# Altium schematic symbol library X.SchLib: 61 symbols
Pins are listed as number, name and electrical type; pins without a type are passive.

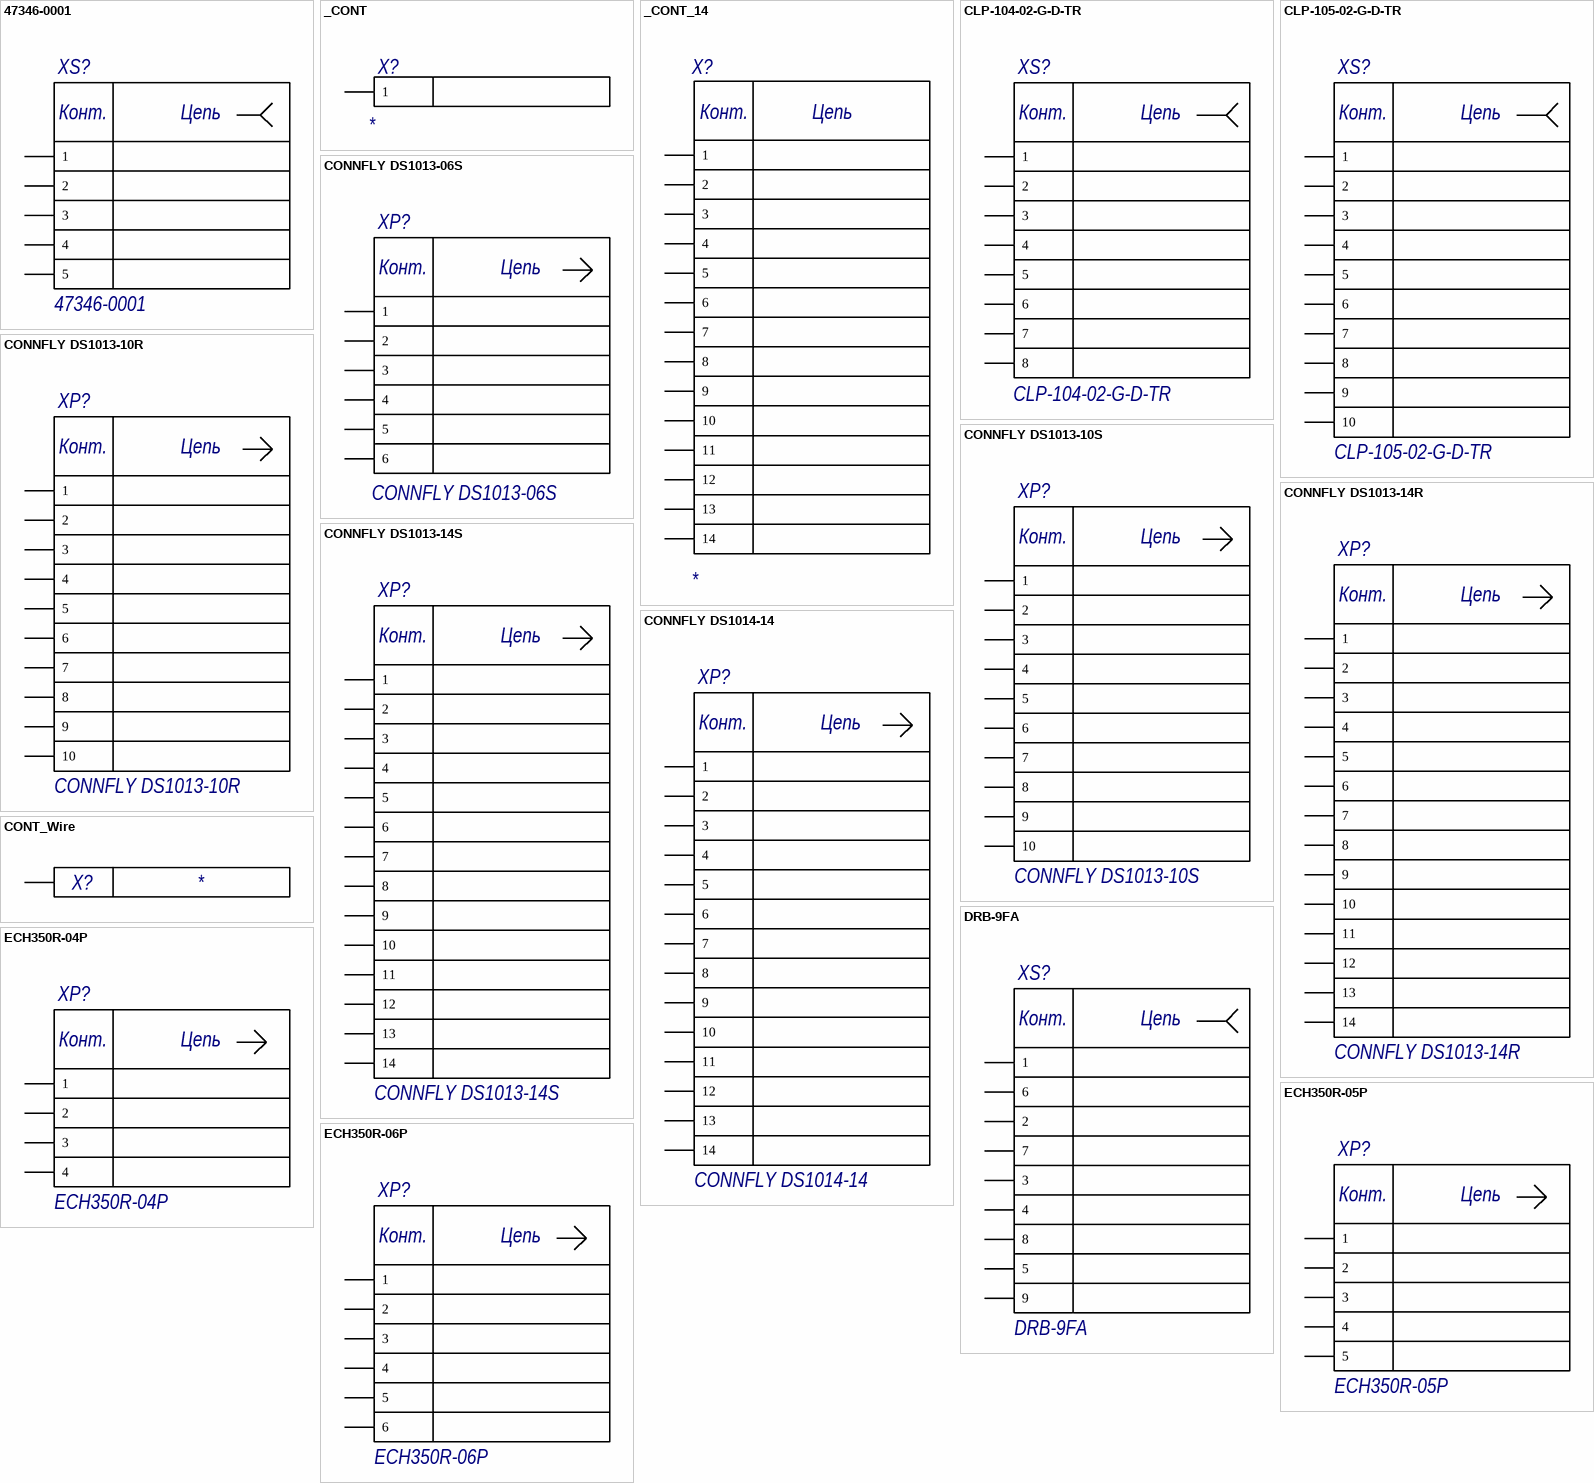
[diagram p0: symbols 47346-0001 to ECH350R-06P]

## 47346-0001
designator XS?, comment PartNumber: 47346-0001  (hidden comment: Розетка 47346-0001 фирма "Molex")
Разъем micro USB-B Molex; GOST: Розетка 47346-0001 фирма "Molex"
footprint 47346-0001 (47346-0001, Разъем micro USB-B (Molex ))
pins: 1, 2, 3, 4, 5
text: Конт.; Цепь

## _CONT
designator X?  (value not drawn)
CONT; GOST: *; PartNumber: *
pins: 1

## _CONT_14
designator X?  (value not drawn)
_CONT; GOST: *; PartNumber: *
pins: 1, 2, 3, 4, 5, 6, 7, 8, 9, 10, 11, 12, 13, 14
text: Конт.; Цепь

## CLP-104-02-G-D-TR
designator XS?, comment PartNumber: CLP-104-02-G-D-TR  (hidden comment: Розетка CLP-104-02-G-D-TR фирма "Samtec")
CONN RCPT 8POS 0.05 GOLD SMD; GOST: Розетка CLP-104-02-G-D-TR фирма "Samtec"
footprint CLP-104-02-G-D
pins: 1, 2, 3, 4, 5, 6, 7, 8
text: Конт.; Цепь

## CLP-105-02-G-D-TR
designator XS?, comment PartNumber: CLP-105-02-G-D-TR  (hidden comment: Розетка CLP-105-02-G-D-TR фирма "Samtec")
CONN RCPT 10POS 0.05 GOLD SMD; GOST: Розетка CLP-105-02-G-D-TR фирма "Samtec"
footprint CLP-105-02-G-D
pins: 1, 2, 3, 4, 5, 6, 7, 8, 9, 10
text: Конт.; Цепь

## CONNFLY DS1013-06S
designator XP?, comment PartNumber: CONNFLY DS1013-06S  (hidden comment: Вилка DS1013-06S фирма "Connfly")
Header CONNFLY DS1013-06S; GOST: Вилка DS1013-06S фирма "Connfly"
footprint CONNFLY DS1013-06S (Header CONNFLY DS1013-06 Pitch 2.54 (BH-06, IDC-06MS) Вилка на плату прямая 6 конт. шаг 2.54 мм)
pins: 1, 2, 3, 4, 5, 6
text: Конт.; Цепь

## CONNFLY DS1013-10R
designator XP?, comment PartNumber: CONNFLY DS1013-10R  (hidden comment: Вилка DS1013-10R фирма "Connfly")
Header CONNFLY DS1013-10R; GOST: Вилка DS1013-10R фирма "Connfly"
footprint CONNFLY DS1013-10R (Header CONNFLY DS1013-10R)
pins: 1, 2, 3, 4, 5, 6, 7, 8, 9, 10
text: Конт.; Цепь

## CONNFLY DS1013-10S
designator XP?, comment PartNumber: CONNFLY DS1013-10S  (hidden comment: Вилка DS1013-10S фирма "Connfly")
Header CONNFLY DS1013-10S; GOST: Вилка DS1013-10S фирма "Connfly"
footprint CONNFLY DS1013-10S (Header CONNFLY DS1013-10 Pitch 2.54 (BH-10))
pins: 1, 2, 3, 4, 5, 6, 7, 8, 9, 10
text: Конт.; Цепь

## CONNFLY DS1013-14R
designator XP?, comment PartNumber: CONNFLY DS1013-14R  (hidden comment: Вилка DS1013-14R фирма "Connfly")
Header CONNFLY DS1013-14R; GOST: Вилка DS1013-14R фирма "Connfly"
footprint CONNFLY DS1013-14R (Header CONNFLY DS1013-14R)
pins: 1, 2, 3, 4, 5, 6, 7, 8, 9, 10, 11, 12, 13, 14
text: Конт.; Цепь

## CONNFLY DS1013-14S
designator XP?, comment PartNumber: CONNFLY DS1013-14S  (hidden comment: Вилка DS1013-14S фирма "Connfly")
Header CONNFLY DS1013-14S; GOST: Вилка DS1013-14S фирма "Connfly"
footprint CONNFLY DS1013-14S (Header CONNFLY DS1013-14 Pitch 2.54 (BH-14))
pins: 1, 2, 3, 4, 5, 6, 7, 8, 9, 10, 11, 12, 13, 14
text: Конт.; Цепь

## CONNFLY DS1014-14
designator XP?, comment PartNumber: CONNFLY DS1014-14  (hidden comment: Вилка DS1014-14 фирма "Connfly")
Header 14pin, pitch 2mm; GOST: Вилка DS1014-14 фирма "Connfly"
footprint CONNFLY DS1014-14 (Header 14pin, pitch 2mm  (BH2-14), H=5.6mm)
pins: 1, 2, 3, 4, 5, 6, 7, 8, 9, 10, 11, 12, 13, 14
text: Конт.; Цепь

## CONT_Wire
designator X?  (value not drawn)
Value: *
footprint KP1_E2.0_D1.1 (1 pin: DP=2.0mm, DO=1.1mm)
footprint KP1_E2.5_D1.3 (1 pin: DP=2.5mm, DO=1.3mm)
footprint KP1_PLAN_X1.6Y3.0 (1 plan pin: XY=1.6*3.0mm)
footprint KP1_E1.0_D0.6 (1 pin: DP=1.0mm, DO=0.6mm)
footprint KP1_PLAN_X1.5Y5.0 (1 plan pin: XY=1.5*5.0mm)
footprint KP1_PLAN_X1.0Y3.0 (1 plan pin: XY=1*3mm)
footprint KP1_E3.0_D1.6 (1 pin: DP=3mm, DO=1.6mm Отверстие после металлизации 1.5мм)
footprint KP1_E3.0_D1.8 (1 pin: DP=3mm, DO=1.8mm Отверстие после металлизации 1.6мм)
footprint KP1_E3.2_D2.2 (1 pin: DP=3.2mm, DO=2.2mm Отверстие после металлизации 2мм)
footprint KP1_PLAN_X1.5Y4.0 (1 plan pin: XY=1.5*4.0mm)
footprint KP1_PLAN_X1.0Y1.0 (1 plan pin: XY=1*1mm)
footprint KP1_PLAN_X1.0Y2.0 (1 plan pin: XY=1*2mm)
footprint KP1_PLAN_X3.0Y5.0 (1 plan pin: XY=3.0*5.0mm)
pins: 1

## DRB-9FA
designator XS?, comment PartNumber: DRB-9FA  (hidden comment: Розетка DRB-9FA фирма "Ningbo connfly electronic")
CONN D-SUB RCPT 9POS R/A SOLDER; GOST: Розетка DRB-9FA фирма "Ningbo connfly electronic"
footprint DRB-9FA (D-SUB Right angle (7.2mm) type (DS1037))
pins: 1, 2, 3, 4, 5, 6, 7, 8, 9
text: Конт.; Цепь

## ECH350R-04P
designator XP?, comment PartNumber: ECH350R-04P  (hidden comment: Вилка ECH350R-04P фирма "DINKLE")
CONN 4 PIN (15EDGRC-3.5-04P (DEGSON)); GOST: Вилка ECH350R-04P фирма "DINKLE"
footprint ECH350R-04P (Pitch=3.5mm)
pins: 1, 2, 3, 4
text: Конт.; Цепь

## ECH350R-05P
designator XP?, comment PartNumber: ECH350R-05P  (hidden comment: Вилка ECH350R-05P фирма "DINKLE")
CONN 5 PIN (15EDGRC-3.5-05P (DEGSON)); GOST: Вилка ECH350R-05P фирма "DINKLE"
footprint ECH350R-05P (Pitch=3.5mm)
pins: 1, 2, 3, 4, 5
text: Конт.; Цепь

## ECH350R-06P
designator XP?, comment PartNumber: ECH350R-06P  (hidden comment: Вилка ECH350R-06P фирма "DINKLE")
CONN 5 PIN (15EDGRC-3.5-06P (DEGSON)); GOST: Вилка ECH350R-06P фирма "DINKLE"
footprint ECH350R-06P (Pitch=3.5mm)
pins: 1, 2, 3, 4, 5, 6
text: Конт.; Цепь

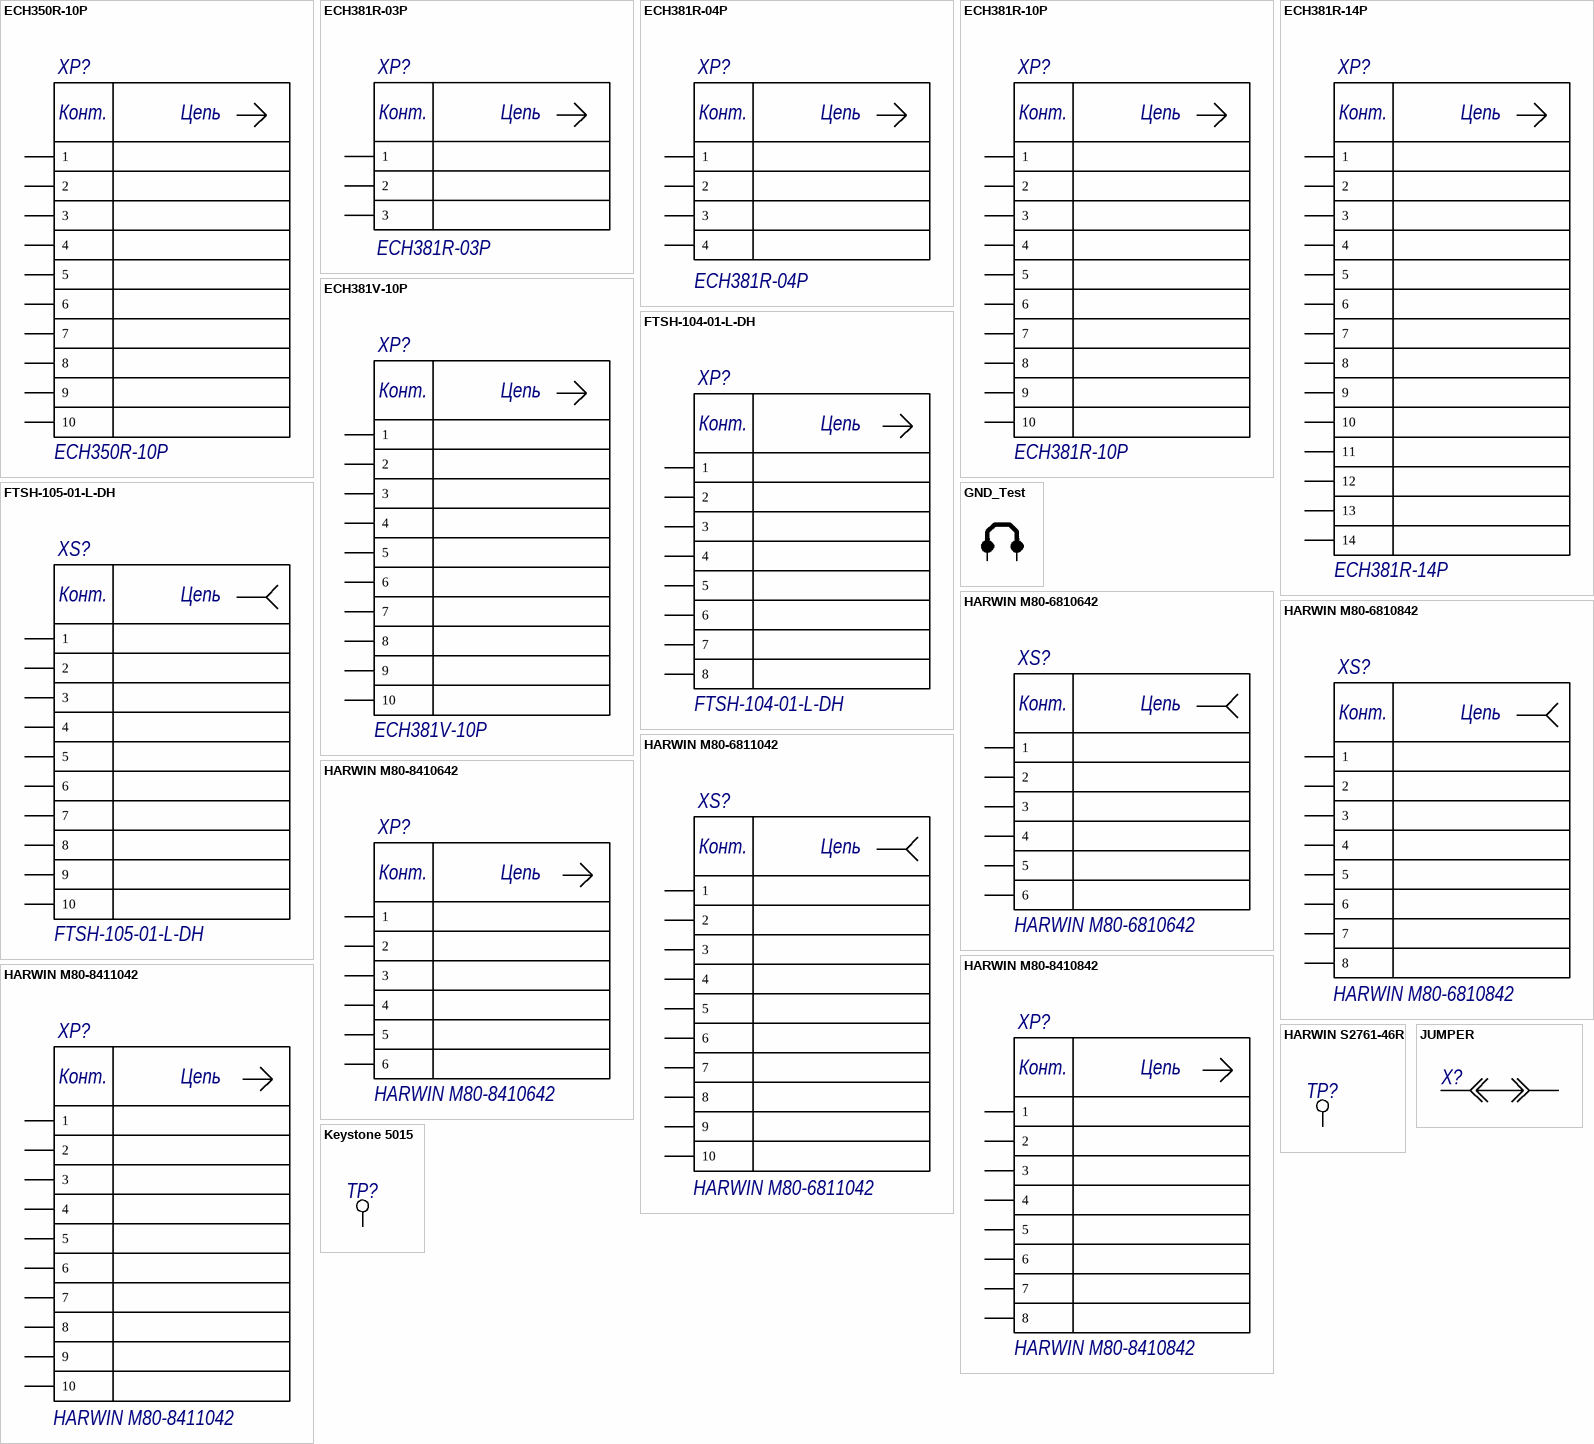
[diagram p1: symbols ECH350R-10P to Keystone 5015]

## ECH350R-10P
designator XP?, comment PartNumber: ECH350R-10P  (hidden comment: Вилка ECH350R-10P фирма "DINKLE")
CONN 10 PIN (15EDGRC-3.5-10P (DEGSON)); GOST: Вилка ECH350R-10P фирма "DINKLE"
footprint ECH350R-10P (Pitch=3.5mm)
pins: 1, 2, 3, 4, 5, 6, 7, 8, 9, 10
text: Конт.; Цепь

## ECH381R-03P
designator XP?, comment PartNumber: ECH381R-03P  (hidden comment: Вилка ECH381R-03P фирма "DINKLE")
CONN 3 PIN (15EDGRC-3.81-03P-14-00A(H) DEGSON); GOST: Вилка ECH381R-03P фирма "DINKLE"
footprint ECH381R-03P (Pitch=3.81mm)
pins: 1, 2, 3
text: Конт.; Цепь

## ECH381R-04P
designator XP?, comment PartNumber: ECH381R-04P  (hidden comment: Вилка ECH381R-04P фирма "DINKLE")
CONN 4 PIN (15EDGRC-3.81-04P-14-00A(H) DEGSON); GOST: Вилка ECH381R-04P фирма "DINKLE"
footprint ECH381R-04P (Pitch=3.81mm)
pins: 1, 2, 3, 4
text: Конт.; Цепь

## ECH381R-10P
designator XP?, comment PartNumber: ECH381R-10P  (hidden comment: Вилка ECH381R-10P фирма "DINKLE")
CONN 10 PIN (15EDGRC-3.81-10P-14-00A(H) DEGSON); GOST: Вилка ECH381R-10P фирма "DINKLE"
footprint ECH381R-10P (Pitch=3.81mm)
pins: 1, 2, 3, 4, 5, 6, 7, 8, 9, 10
text: Конт.; Цепь

## ECH381R-14P
designator XP?, comment PartNumber: ECH381R-14P  (hidden comment: Вилка ECH381R-14P фирма "DINKLE")
CONN 14 PIN (15EDGRC-3.81-14P-14-00A(H) DEGSON); GOST: Вилка ECH381R-14P фирма "DINKLE"
footprint ECH381R-14P (Pitch=3.81mm)
pins: 1, 2, 3, 4, 5, 6, 7, 8, 9, 10, 11, 12, 13, 14
text: Конт.; Цепь

## ECH381V-10P
designator XP?, comment PartNumber: ECH381V-10P  (hidden comment: Вилка ECH381V-10P фирма "DINKLE")
CONN 10 PIN (15EDGVC-3.81-10P-14-00A(H) DEGSON); GOST: Вилка ECH381V-10P фирма "DINKLE"
footprint ECH381V-10P (Pitch=3.81mm)
pins: 1, 2, 3, 4, 5, 6, 7, 8, 9, 10
text: Конт.; Цепь

## FTSH-104-01-L-DH
designator XP?, comment PartNumber: FTSH-104-01-L-DH  (hidden comment: Вилка FTSH-104-01-L-DH фирма "Samtec")
CONN HEADER SMD R/A 8POS 1.27MM; GOST: Вилка FTSH-104-01-L-DH фирма "Samtec"
footprint FTSH-104-01-L-DH
pins: 1, 2, 3, 4, 5, 6, 7, 8
text: Конт.; Цепь

## FTSH-105-01-L-DH
designator XS?, comment PartNumber: FTSH-105-01-L-DH  (hidden comment: Вилка FTSH-105-01-L-DH фирма "Samtec")
CONN RCPT 10POS 0.05 GOLD 3.4A SMD; GOST: Вилка FTSH-105-01-L-DH фирма "Samtec"
footprint FTSH-105-01-L-DH
pins: 1, 2, 3, 4, 5, 6, 7, 8, 9, 10
text: Конт.; Цепь

## GND_Test
designator ?  (value not drawn)
2 test pin on GND
footprint GND_TEST (5mm) (2 pin with step 5mm: DP=1.4mm, DO=0.9mm)
footprint GND_TEST (4mm) (2 pin with step 4mm: DP=1.4mm, DO=0.9mm)
pins: 1, 2

## HARWIN M80-6810642
designator XS?, comment PartNumber: HARWIN M80-6810642  (hidden comment: Розетка M80-6810642 фирма "Harwin")
Socket M80-6810642 фирма HARWIN; GOST: Розетка M80-6810642 фирма "Harwin"
footprint HARWIN M80-6810642 (L=9.15 x 5.45mm H=5.6mm)
pins: 1, 2, 3, 4, 5, 6
text: Конт.; Цепь

## HARWIN M80-6810842
designator XS?, comment PartNumber: HARWIN M80-6810842  (hidden comment: Розетка M80-6810842 фирма "Harwin")
Socket M80-6810842 фирма HARWIN; GOST: Розетка M80-6810842 фирма "Harwin"
footprint HARWIN M80-6810842 (L=11.15 x 5.45mm H=5.6mm)
pins: 1, 2, 3, 4, 5, 6, 7, 8
text: Конт.; Цепь

## HARWIN M80-6811042
designator XS?, comment PartNumber: HARWIN M80-6811042  (hidden comment: Розетка M80-6811042 фирма "HARVIN")
Socket M80-6811042 фирма HARWIN; GOST: Розетка M80-6811042 фирма "HARVIN"
footprint HARWIN M80-6811042 (L=13.15 x 5.45mm H=5.6mm)
pins: 1, 2, 3, 4, 5, 6, 7, 8, 9, 10
text: Конт.; Цепь

## HARWIN M80-8410642
designator XP?, comment PartNumber: HARWIN M80-8410642  (hidden comment: Вилка M80-8410642 фирма "Harwin")
Header M80-8410642 фирма HARWIN; GOST: Вилка M80-8410642 фирма "Harwin"
pins: 1, 2, 3, 4, 5, 6
text: Конт.; Цепь

## HARWIN M80-8410842
designator XP?, comment PartNumber: HARWIN M80-8410842  (hidden comment: Вилка M80-8410842 фирма "Harwin")
Header M80-8410842 фирма HARWIN; GOST: Вилка M80-8410842 фирма "Harwin"
footprint HARWIN M80-8410842
pins: 1, 2, 3, 4, 5, 6, 7, 8
text: Конт.; Цепь

## HARWIN M80-8411042
designator XP?, comment PartNumber: HARWIN M80-8411042  (hidden comment: Вилка M80-8411042 фирма "Harwin")
Header M80-8411042 фирма HARWIN; GOST: Вилка M80-8411042 фирма "Harwin"
footprint HARWIN M80-8411042
pins: 1, 2, 3, 4, 5, 6, 7, 8, 9, 10
text: Конт.; Цепь

## HARWIN S2761-46R
designator TP?, comment Контрольная точка S2761-46R фирма "Harwin"  (value not drawn)
Контрольная точка S2761-46R фирма HARWIN; Manufacturer: Harvin; PartNumber: S2761-46R; GOST: Контрольная точка S2761-46R фирма "Harwin"
footprint HARWIN S2761-46R (Test Points 1.6x0.8x1.15mm Harvin)
pins: 1

## JUMPER
designator X?, comment Перемычка  (value not drawn)
footprint Jamper 5mm
footprint Jamper 5mm plan
footprint JMP_PLAN (Перемычка под пайку)
pins: 1, 2
1 alternate drawing of the same symbol

## Keystone 5015
designator TP?, comment Контрольная точка 5015 фирма "Keystone"  (value not drawn)
Контрольная точка 5015 фирма Keystone; Manufacturer: Keystone; PartNumber: Keystone 5015; GOST: Контрольная точка 5015 фирма "Keystone"
footprint Keystone 5015 (Test Points 2.67x1.02x1.52mm Keystone)
pins: 1

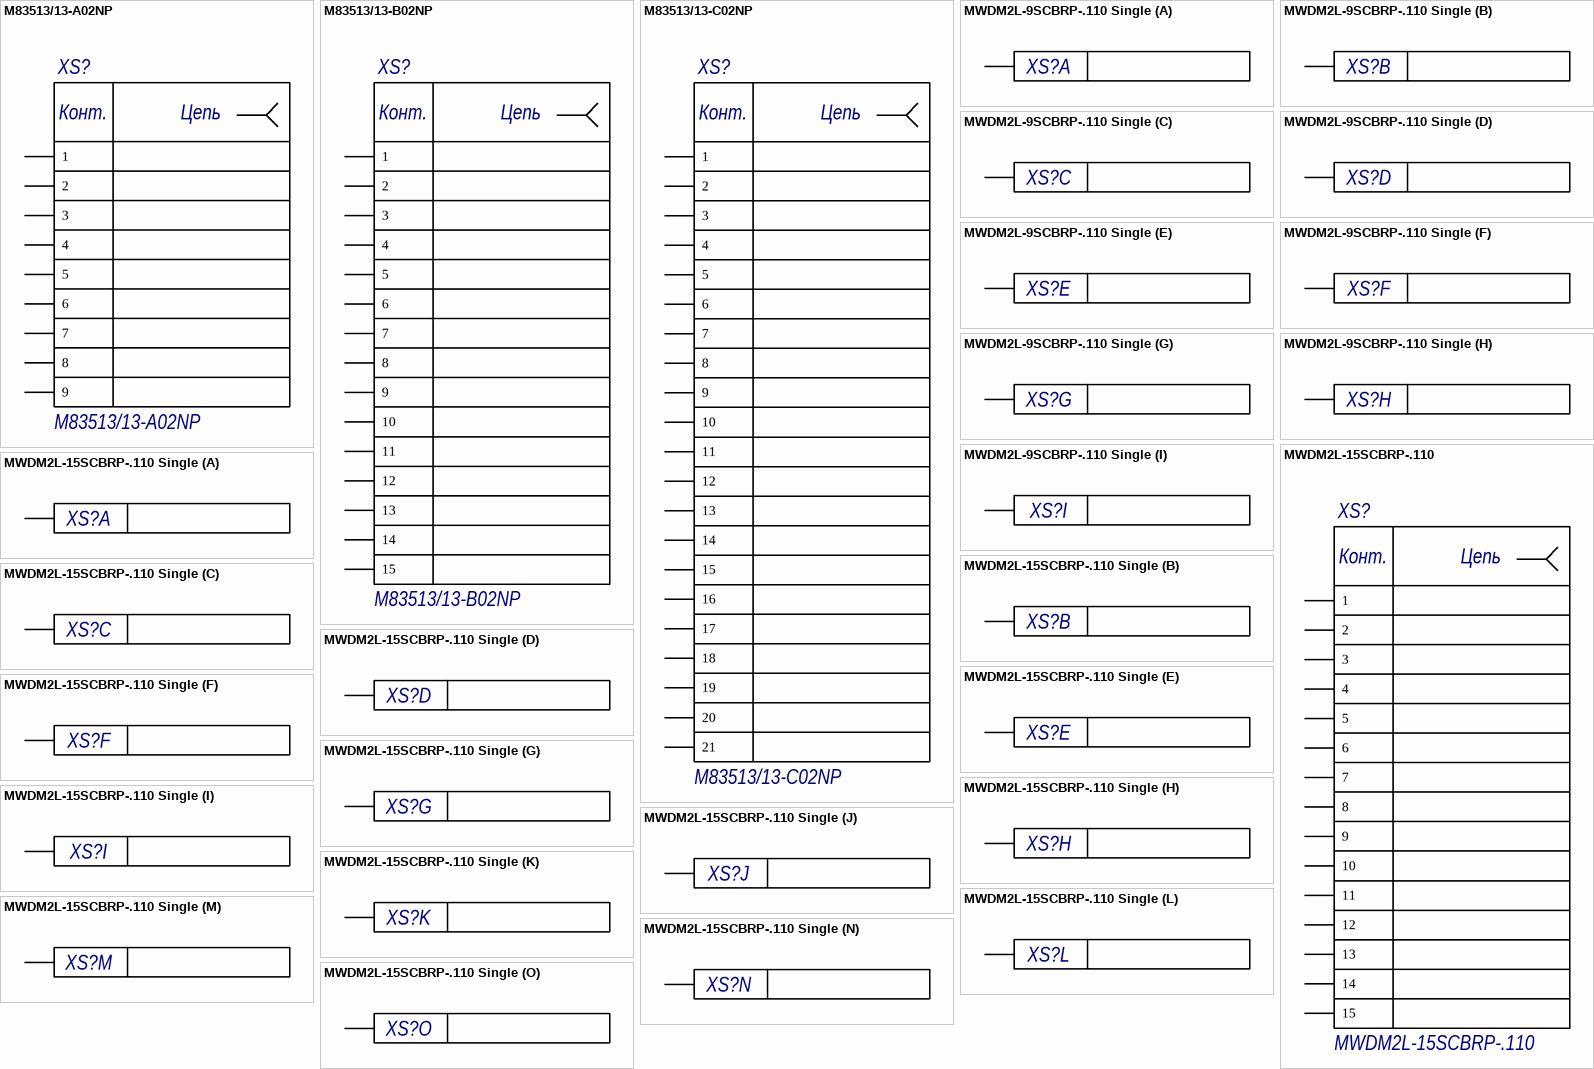
[diagram p2: symbols M83513/13-A02NP to MWDM2L-15SCBRP-.110 Single]

## M83513/13-A02NP
designator XS?, comment PartNumber: M83513/13-A02NP  (hidden comment: Розетка M83513/13-A02NP фирма "Glenair")
Socket 9 pin Glenair MIL-DTL-83513/9 Micro-D CBR  Condensed Right Angle PCB Terminated; GOST: Розетка M83513/13-A02NP фирма "Glenair"
footprint M83513/13-A (Socket M83513/13-A, (9 pin) GLENAR (MWDM2L-9SCBRP-.110))
pins: 1, 2, 3, 4, 5, 6, 7, 8, 9
text: Конт.; Цепь

## M83513/13-B02NP
designator XS?, comment PartNumber: M83513/13-B02NP  (hidden comment: Розетка M83513/13-B02NP фирма "Glenair")
Socket 15 pin Glenair MIL-DTL-83513/15 Micro-D CBR  Condensed Right Angle PCB Terminated; GOST: Розетка M83513/13-B02NP фирма "Glenair"
footprint M83513/13-B (Socket M83513/13-B, (15 pin) GLENAR (MWDM2L-15SCBRP-.110))
pins: 1, 2, 3, 4, 5, 6, 7, 8, 9, 10, 11, 12, 13, 14, 15
text: Конт.; Цепь

## M83513/13-C02NP
designator XS?, comment PartNumber: M83513/13-C02NP  (hidden comment: Розетка M83513/13-C02NP фирма "Glenair")
Socket 21 pin Glenair MIL-DTL-83513/10 Thru /15 Micro-D Connectors  Right Angle PCB Connectors (CBR); GOST: Розетка M83513/13-C02NP фирма "Glenair"
footprint M83513/13-C (Socket M83513/13-C (21pin) Glenar (MWDM2L-21SCBRP-.110)  H=7.87mm)
pins: 1, 2, 3, 4, 5, 6, 7, 8, 9, 10, 11, 12, 13, 14, 15, 16, 17, 18, 19, 20, 21
text: Конт.; Цепь

## MWDM2L-9SCBRP-.110 Single
designator XS?, comment MWDM2L-9SCBRP-.110  (value not drawn)
Socket Glenair Micro-D MWDM; GOST: Розетка MWDM2L-9SCBRP-.110 фирма "Glenair"; PartNumber: MWDM2L-9SCBRP-.110
footprint MWDM2L-9SCBRP-.110 (Socket MWDM2L-9SCBRP-.110)
part A pins: 1
part B pins: 1
part C pins: 1
part D pins: 1
part E pins: 1
part F pins: 1
part G pins: 1
part H pins: 1
part I pins: 1

## MWDM2L-15SCBRP-.110
designator XS?, comment PartNumber: MWDM2L-15SCBRP-.110  (hidden comment: Розетка MWDM2L-15SCBRP-.110 фирма "Glenair")
Socket Glenair Micro-D MWDM; GOST: Розетка MWDM2L-15SCBRP-.110 фирма "Glenair"
footprint MWDM2L-15SCBRP-.110 (Socket MWDM2L-15SCBRP-.110)
pins: 1, 2, 3, 4, 5, 6, 7, 8, 9, 10, 11, 12, 13, 14, 15
text: Конт.; Цепь

## MWDM2L-15SCBRP-.110 Single
designator XS?, comment MWDM2L-15SCBRP-.110  (value not drawn)
Socket Glenair Micro-D MWDM; GOST: Розетка MWDM2L-15SCBRP-.110 фирма "Glenair"; PartNumber: MWDM2L-15SCBRP-.110
footprint MWDM2L-21SCBRP-.110 (Socket MWDM2L-15SCBRP-.110  H=7.87mm)
part A pins: 1
part B pins: 1
part C pins: 1
part D pins: 1
part E pins: 1
part F pins: 1
part G pins: 1
part H pins: 1
part I pins: 1
part J pins: 1
part K pins: 1
part L pins: 1
part M pins: 1
part N pins: 1
part O pins: 1

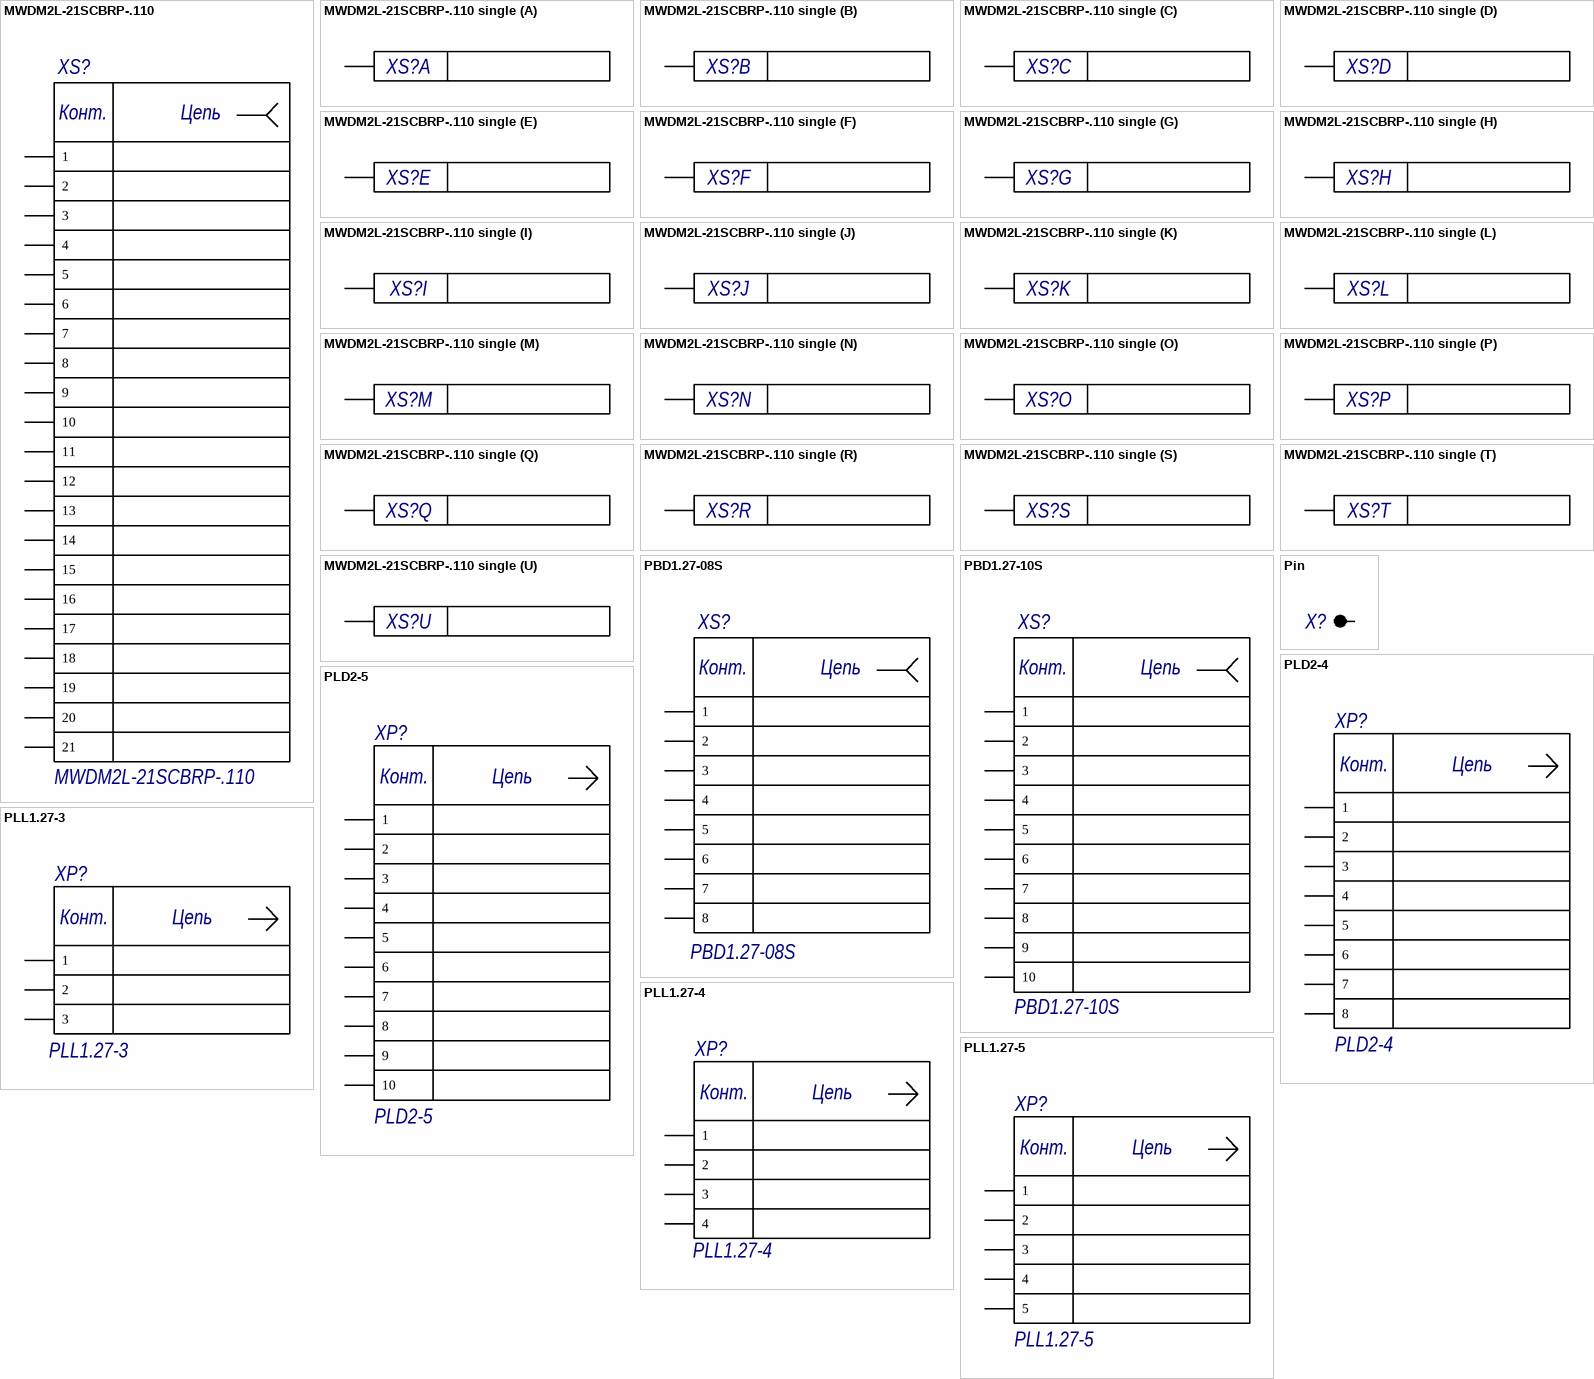
[diagram p3: symbols MWDM2L-21SCBRP-.110 to PLL1.27-5]

## MWDM2L-21SCBRP-.110
designator XS?, comment PartNumber: MWDM2L-21SCBRP-.110  (hidden comment: Розетка MWDM2L-21SCBRP-.110 фирма "Glenair")
Socket Glenair Micro-D MWDM; GOST: Розетка MWDM2L-21SCBRP-.110 фирма "Glenair"
footprint MWDM2L-21SCBRP-.110 (Socket MWDM2L-15SCBRP-.110  H=7.87mm)
pins: 1, 2, 3, 4, 5, 6, 7, 8, 9, 10, 11, 12, 13, 14, 15, 16, 17, 18, 19, 20, 21
text: Конт.; Цепь

## MWDM2L-21SCBRP-.110 single
designator XS?, comment MWDM2L-21SCBRP-.110  (value not drawn)
Socket Glenair Micro-D MWDM; GOST: Розетка MWDM2L-21SCBRP-.110 фирма "Glenair"; PartNumber: MWDM2L-21SCBRP-.110
footprint MWDM2L-21SCBRP-.110 (Socket MWDM2L-15SCBRP-.110  H=7.87mm)
part A pins: 1
part B pins: 1
part C pins: 1
part D pins: 1
part E pins: 1
part F pins: 1
part G pins: 1
part H pins: 1
part I pins: 1
part J pins: 1
part K pins: 1
part L pins: 1
part M pins: 1
part N pins: 1
part O pins: 1
part P pins: 1
part Q pins: 1
part R pins: 1
part S pins: 1
part T pins: 1
part U pins: 1

## PBD1.27-08S
designator XS?, comment PartNumber: PBD1.27-08S  (hidden comment: Розетка PBD1.27-08S фирма "Hsuan Mao Technology")
Гнездо на плату, шаг 1.27мм, поверхностный монтаж, двухрядное; GOST: Розетка PBD1.27-08S фирма "Hsuan Mao Technology"
footprint PBD1.27-08S (Connector. Socket, 4x2 (step 1.27mm) pozicion, поверностный монтаж)
pins: 1, 2, 3, 4, 5, 6, 7, 8
text: Конт.; Цепь

## PBD1.27-10S
designator XS?, comment PartNumber: PBD1.27-10S  (hidden comment: Розетка PBD1.27-10S фирма "Hsuan Mao Technology")
Гнездо на плату, шаг 1.27мм, поверхностный монтаж, двухрядное; GOST: Розетка PBD1.27-10S фирма "Hsuan Mao Technology"
footprint PBD1.27-10S (Connector. Socket, 5x2 (step 1.27mm) pozicion, поверностный монтаж)
pins: 1, 2, 3, 4, 5, 6, 7, 8, 9, 10
text: Конт.; Цепь

## Pin
designator X?  (value not drawn)
footprint KP1_PLAN_X1.0Y1.0 (1 plan pin: XY=1*1mm)
footprint KP1_E2.0_D1.1 (1 pin: DP=2.0mm, DO=1.1mm)
footprint KP1_E2.5_D1.3 (1 pin: DP=2.5mm, DO=1.3mm)
footprint KP1_E1.0_D0.6 (1 pin: DP=1.0mm, DO=0.6mm)
footprint KP1_PLAN_X1.0Y2.0 (1 plan pin: XY=1*2mm)
footprint KP1_PLAN_X1.6Y3.0 (1 plan pin: XY=1.6*3.0mm)
footprint KP1_PLAN_X1.0Y3.0 (1 plan pin: XY=1*3mm)
footprint KP1_E3.2_D2.2 (1 pin: DP=3.2mm, DO=2.2mm Отверстие после металлизации 2мм)
pins: 1

## PLD2-4
designator XP?, comment PartNumber: PLD2-4  (hidden comment: Вилка PLD2-4 фирма "Ningbo connfly electronic")
вилка штыревая шаг 2мм 4x2 прямая; GOST: Вилка PLD2-4 фирма "Ningbo connfly electronic"
footprint PLD2-4 (Connector. Header, 4x2 (step 2mm) pozicion)
pins: 1, 2, 3, 4, 5, 6, 7, 8
text: Конт.; Цепь

## PLD2-5
designator XP?, comment PartNumber: PLD2-5  (hidden comment: Вилка PLD2-5 фирма "Ningbo connfly electronic")
вилка штыревая шаг 2мм 5x2 прямая; GOST: Вилка PLD2-5 фирма "Ningbo connfly electronic"
footprint PLD2-5 (Connector. Header, 5x2 (step 2mm) pozicion)
pins: 1, 2, 3, 4, 5, 6, 7, 8, 9, 10
text: Конт.; Цепь

## PLL1.27-3
designator XP?, comment PartNumber: PLL1.27-3  (hidden comment: Вилка PLL1.27-3 фирма "Ningbo connfly electronic")
PLL1.27-3 Pitch 1.27mm; GOST: Вилка PLL1.27-3 фирма "Ningbo connfly electronic"
footprint PLL1.27-3 (Connector. Header, 1x3 (step 1.27mm) pozicion)
pins: 1, 2, 3
text: Конт.; Цепь

## PLL1.27-4
designator XP?, comment PartNumber: PLL1.27-4  (hidden comment: Вилка PLL1.27-4 фирма "Ningbo connfly electronic")
PLL1.27-4 Pitch 1.27mm; GOST: Вилка PLL1.27-4 фирма "Ningbo connfly electronic"
footprint PLL1.27-4 (Connector. Header, 1x4 (step 1.27mm) pozicion)
pins: 1, 2, 3, 4
text: Конт.; Цепь

## PLL1.27-5
designator XP?, comment PartNumber: PLL1.27-5  (hidden comment: Вилка PLL1.27-5 фирма "Ningbo connfly electronic")
PLL1.27-5 Pitch 1.27mm; GOST: Вилка PLL1.27-5 фирма "Ningbo connfly electronic"
footprint PLL1.27-5 (Connector. Header, 1x5 (step 1.27mm) pozicion)
pins: 1, 2, 3, 4, 5
text: Конт.; Цепь

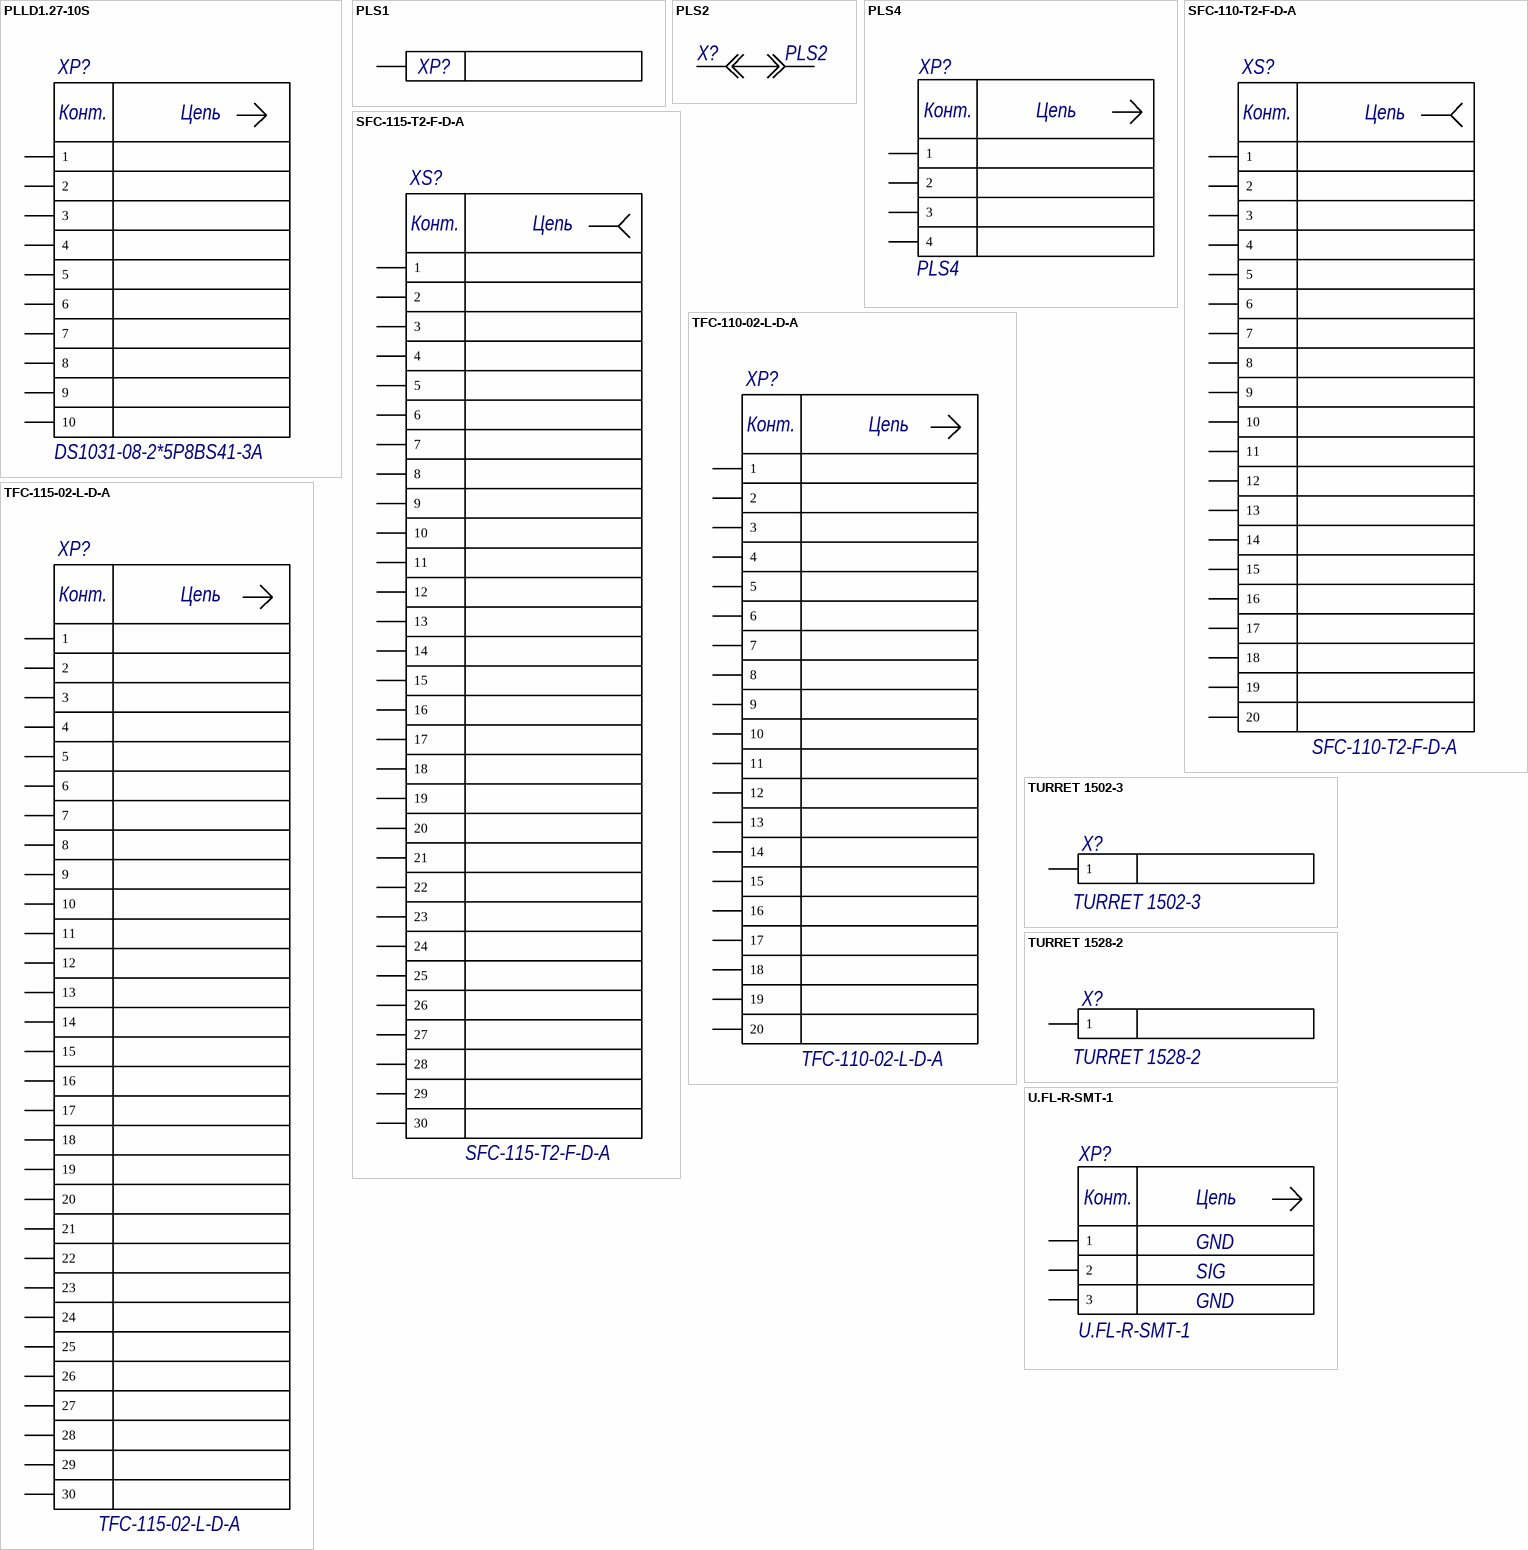
[diagram p4: symbols PLLD1.27-10S to U.FL-R-SMT-1]

## PLLD1.27-10S
designator XP?, comment PartNumber: DS1031-08-2*5P8BS41-3A  (hidden comment: Вилка DS1031-08-2*5P8BS41-3A фирма "CONNFLY")
Вилка штыревая 1,27мм 2х5, поверхностный монтаж; GOST: Вилка DS1031-08-2*5P8BS41-3A фирма "CONNFLY"
footprint PLLD1.27-10S (Connector. Header, 5x2 (step 1.27mm) pozicion, поверностный монтаж)
pins: 1, 2, 3, 4, 5, 6, 7, 8, 9, 10
text: Конт.; Цепь

## PLS1
designator XP?, comment Вилка PLS-1 фирма "NXU"  (value not drawn)
вилка штыревая 2.54мм 1x1 прямая; PartNumber: PLS1; GOST: Вилка PLS-1 фирма "NXU"
footprint PLS1 (Connector. Header, 1x1 pozicion, pitch 2.54mm)
pins: 1

## PLS2
designator X?, comment PartNumber: PLS2  (hidden comment: Вилка PLS-2 фирма "Connfly")
Перемычка-вилка штыревая 2.54мм 2x1 прямая; GOST: Вилка PLS-2 фирма "Connfly"
footprint PLS2 (Connector. Header, 1x2 pozicion, pitch 2.54mm)
pins: 1, 2
1 alternate drawing of the same symbol

## PLS4
designator XP?, comment PartNumber: PLS4  (hidden comment: Вилка PLS-4 фирма "Connfly")
вилка штыревая 2.54мм 4x1 прямая; GOST: Вилка PLS-4 фирма "Connfly"
footprint PLS4 (Connector. Header, 1x2 (step 2.54mm) pozicion)
pins: 1, 2, 3, 4
text: Конт.; Цепь

## SFC-110-T2-F-D-A
designator XS?, comment PartNumber: SFC-110-T2-F-D-A  (hidden comment: Розетка SFC-110-T2-F-D-A фирма "Samtec")
Socket 20pin, pitch 1.27mm; GOST: Розетка SFC-110-T2-F-D-A фирма "Samtec"
footprint SFC-110-02-L-D-A (Socket 10x2 (step 1.27mm) pozicion)
pins: 1, 2, 3, 4, 5, 6, 7, 8, 9, 10, 11, 12, 13, 14, 15, 16, 17, 18, 19, 20
text: Конт.; Цепь

## SFC-115-T2-F-D-A
designator XS?, comment PartNumber: SFC-115-T2-F-D-A  (hidden comment: Розетка SFC-115-T2-F-D-A фирма "Samtec")
Socket 30pin, pitch 1.27mm; GOST: Розетка SFC-115-T2-F-D-A фирма "Samtec"
footprint SFC-115-02-L-D-A (Socket 15x2 (step 1.27mm) pozicion)
pins: 1, 2, 3, 4, 5, 6, 7, 8, 9, 10, 11, 12, 13, 14, 15, 16, 17, 18, 19, 20, 21, 22, 23, 24, 25, 26, 27, 28, 29, 30
text: Конт.; Цепь

## TFC-110-02-L-D-A
designator XP?, comment PartNumber: TFC-110-02-L-D-A  (hidden comment: Вилка TFC-110-02-L-D-A фирма "Samtec")
Header 20pin, pitch 1.27mm; GOST: Вилка TFC-110-02-L-D-A фирма "Samtec"
footprint TFC-110-02-L-D-A (Connector 10x2 (step 1.27mm) pozicion)
pins: 1, 2, 3, 4, 5, 6, 7, 8, 9, 10, 11, 12, 13, 14, 15, 16, 17, 18, 19, 20
text: Конт.; Цепь

## TFC-115-02-L-D-A
designator XP?, comment PartNumber: TFC-115-02-L-D-A  (hidden comment: Вилка TFC-115-02-L-D-A фирма "Samtec")
Header 30pin, pitch 1.27mm; GOST: Вилка TFC-115-02-L-D-A фирма "Samtec"
footprint TFC-115-02-L-D-A (Connector 15x2 (step 1.27mm) pozicion)
pins: 1, 2, 3, 4, 5, 6, 7, 8, 9, 10, 11, 12, 13, 14, 15, 16, 17, 18, 19, 20, 21, 22, 23, 24, 25, 26, 27, 28, 29, 30
text: Конт.; Цепь

## TURRET 1502-3
designator X?, comment PartNumber: TURRET 1502-3  (hidden comment: TURRET 1502-3 фирма "Keystone Electronics")
PCB TURRET TERMINAL L=3,58 mm; GOST: TURRET 1502-3 фирма "Keystone Electronics"
footprint TURRET 1502-3
pins: 1

## TURRET 1528-2
designator X?, comment PartNumber: TURRET 1528-2  (hidden comment: TURRET 1528-2 фирма "Keystone Electronics")
PCB TERMINAL STUD L=2,08 mm; GOST: TURRET 1528-2 фирма "Keystone Electronics"
footprint TURRET 1528-2
pins: 1

## U.FL-R-SMT-1
designator XP?, comment PartNumber: U.FL-R-SMT-1  (hidden comment: Вилка U.FL-R-SMT-1 фирма "Hirose Electric")
Ultra Small Surface Mount Coaxial Connectors; GOST: Вилка U.FL-R-SMT-1 фирма "Hirose Electric"
footprint U.FL-R-SMT-1 (3.1x3 mm, Ultra Small Surface Mount Coaxial Connectors)
pins: 1, 2, 3
text: Конт.; Цепь; GND; SIG